# EAGLE library part MODULE_HEADER_MODULE (library tm)
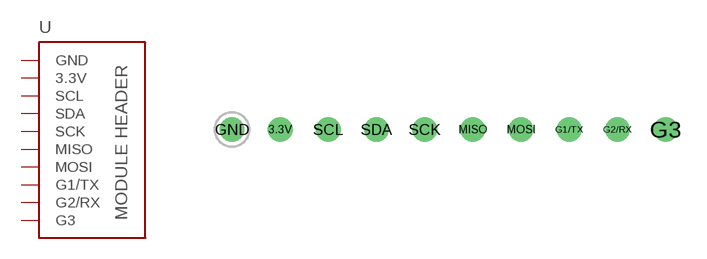
[diagram p0: symbol with the pads of MODULE_HEADER_MODULE; footprint MODULE_HEADER_MODULE]

Designator prefix -

## MODULE_HEADER_MODULEDEFAULT  [MODULE_HEADER_MODULE]
3.3V  3.3V  pwr
G1/TX  G1/TX
G2/RX  G2/RX
G3  G3
GND  GND  pwr
MISO  MISO  out
MOSI  MOSI  in
SCK  SCK
SCL  SCL
SDA  SDA

## Footprint MODULE_HEADER_MODULE (pad centres in mm)
drill 0.8: 3.3V -8.89,0; G1/TX 6.35,0; G2/RX 8.89,0; G3 11.43,0; GND -11.43,0; MISO 1.27,0; MOSI 3.81,0; SCK -1.27,0; SCL -6.35,0; SDA -3.81,0